# Altium schematic symbol library WSF3085.SchLib: 1 symbol
Pins are listed as number, name and electrical type; pins without a type are passive.

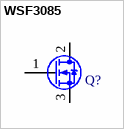
[diagram p0: symbol WSF3085]

## WSF3085
designator Q?
pins: 1 G, 2 D, 3 S